# EAGLE library part LTC1746 (library Fitch_Eagle_Library)
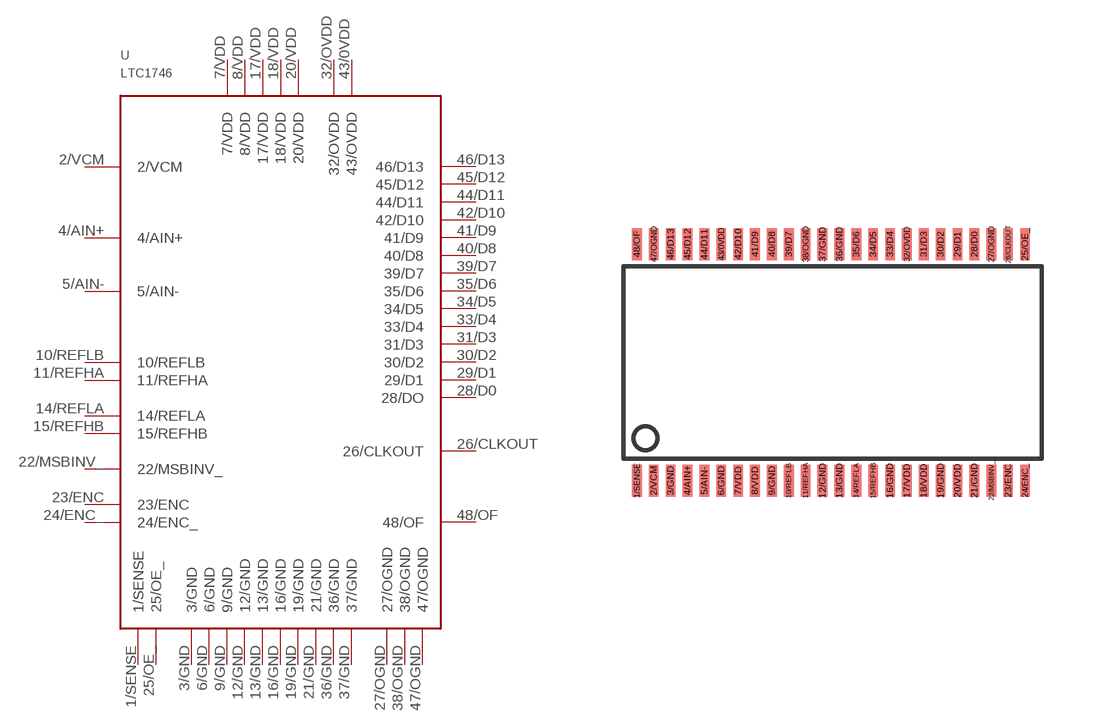
[diagram p14: symbol with the pads of LTC1746; footprint LTC1746]

Designator prefix -

## LTC1746  [LTC1746]
1/SENSE  1/SENSE
2/VCM  2/VCM
3/GND  3/GND
4/AIN+  4/AIN+
5/AIN-  5/AIN-
6/GND  6/GND
7/VDD  7/VDD
8/VDD  8/VDD
9/GND  9/GND
10/REFLB  10/REFLB
11/REFHA  11/REFHA
12/GND  12/GND
13/GND  13/GND
14/REFLA  14/REFLA
15/REFHB  15/REFHB
16/GND  16/GND
17/VDD  17/VDD
18/VDD  18/VDD
19/GND  19/GND
20/VDD  20/VDD
21/GND  21/GND
22/MSBINV_  22/MSBINV_
23/ENC  23/ENC
24/ENC_  24/ENC_
25/OE_  25/OE_
26/CLKOUT  26/CLKOUT
27/OGND  27/OGND
28/D0  28/DO
29/D1  29/D1
30/D2  30/D2
31/D3  31/D3
32/OVDD  32/OVDD
33/D4  33/D4
34/D5  34/D5
35/D6  35/D6
36/GND  36/GND
37/GND  37/GND
38/OGND  38/OGND
39/D7  39/D7
40/D8  40/D8
41/D9  41/D9
42/D10  42/D10
43/0VDD  43/OVDD
44/D11  44/D11
45/D12  45/D12
46/D13  46/D13
47/OGND  47/OGND
48/OF  48/OF

## Footprint LTC1746 (pad centres in mm)
smd 0.29 x 0.95: 1/SENSE -6,-3.5; 2/VCM -5.5,-3.5; 3/GND -5,-3.5; 4/AIN+ -4.5,-3.5; 5/AIN- -4,-3.5; 6/GND -3.5,-3.5; 7/VDD -3,-3.5; 8/VDD -2.5,-3.5; 9/GND -2,-3.5; 10/REFLB -1.5,-3.5; 11/REFHA -1,-3.5; 12/GND -0.5,-3.5; 13/GND 0,-3.5; 14/REFLA 0.5,-3.5; 15/REFHB 1,-3.5; 16/GND 1.5,-3.5; 17/VDD 2,-3.5; 18/VDD 2.5,-3.5; 19/GND 3,-3.5; 20/VDD 3.5,-3.5; 21/GND 4,-3.5; 22/MSBINV_ 4.5,-3.5; 23/ENC 5,-3.5; 24/ENC_ 5.5,-3.5; 25/OE_ 5.5,3.5; 26/CLKOUT 5,3.5; 27/OGND 4.5,3.5; 28/D0 4,3.5; 29/D1 3.5,3.5; 30/D2 3,3.5; 31/D3 2.5,3.5; 32/OVDD 2,3.5; 33/D4 1.5,3.5; 34/D5 1,3.5; 35/D6 0.5,3.5; 36/GND 0,3.5; 37/GND -0.5,3.5; 38/OGND -1,3.5; 39/D7 -1.5,3.5; 40/D8 -2,3.5; 41/D9 -2.5,3.5; 42/D10 -3,3.5; 43/0VDD -3.5,3.5; 44/D11 -4,3.5; 45/D12 -4.5,3.5; 46/D13 -5,3.5; 47/OGND -5.5,3.5; 48/OF -6,3.5